# EAGLE library part RJ45 (library libami)
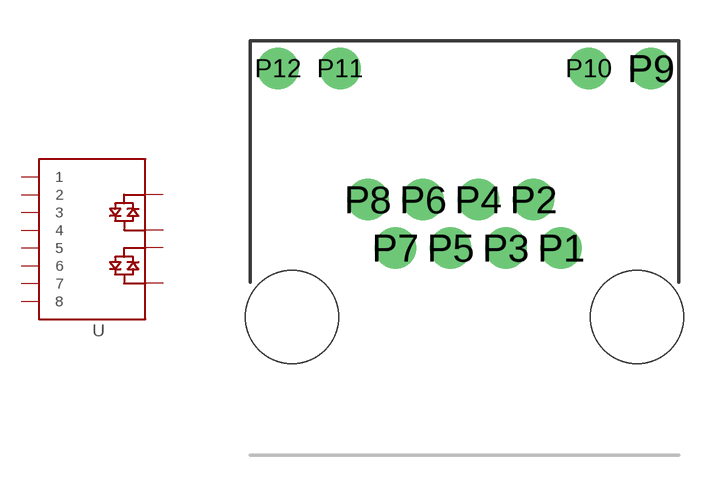
[diagram p20: symbol with the pads of RJ45; footprint RJ45]

Designator prefix -

## RJ45  [RJ45]
P1  1
P2  2
P3  3
P4  4
P5  5
P6  6
P7  7
P8  8
P9  P$9
P10  P$10
P11  P$11
P12  P$12

## Footprint RJ45 (pad centres in mm)
drill 1.016: P1 11.43,7.62; P2 10.414,9.398; P3 9.398,7.62; P4 8.382,9.398; P5 7.366,7.62; P6 6.35,9.398; P7 5.334,7.62; P8 4.318,9.398; P9 14.732,14.224; P10 12.446,14.224; P11 3.302,14.224; P12 1.016,14.224
hole 3.429 at 1.524,5.08
hole 3.429 at 14.224,5.08